# Altium schematic symbol library MIC5219.SchLib: 1 symbol
Pins are listed as number, name and electrical type; pins without a type are passive.

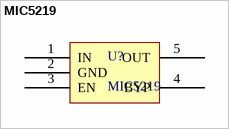
[diagram p0: symbol MIC5219]

## MIC5219
designator U?
pins: 1 IN, 2 GND, 3 EN, 4 BYP, 5 OUT